# EAGLE library part MMA8491Q (library Parts for D-DAQ)
Digital Accelerometer: 3-axis, 12-bit
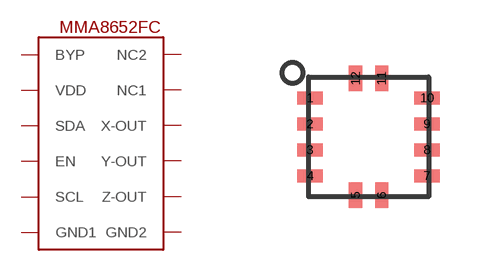
[diagram p6: symbol with the pads of QFN-12; footprint QFN-12]

Designator prefix ACC

## MMA8491Q  [QFN-12]
1  BYP  pas
2  VDD  pwr
3  SDA
4  EN  out
5  SCL  in
6  GND1  pwr
7  GND2  pwr
8  Z-OUT  out
9  Y-OUT  out
10  X-OUT  out
11  NC1  nc
12  NC2  nc

## Footprint QFN-12 (pad centres in mm)
smd 0.635 x 0.325: 1 -1.462,0.975; 2 -1.462,0.325; 3 -1.462,-0.325; 4 -1.462,-0.975; 7 1.462,-0.975; 8 1.462,-0.325; 9 1.462,0.325; 10 1.462,0.975
smd 0.325 x 0.635: 5 -0.325,-1.462; 6 0.325,-1.462; 11 0.325,1.462; 12 -0.325,1.462